# Altium footprint library MB172.PcbLib: 1 footprints
Each footprint in its own frame and in the unit in brackets; x right, y up, seen from the top. Pads: shape width x height; smd on the part's side, far side on the other; paste and mask are expansions set on the pad; w line width, h text height; cw(c..) or ccw(c..) is an arc to the next point about the centre after c.
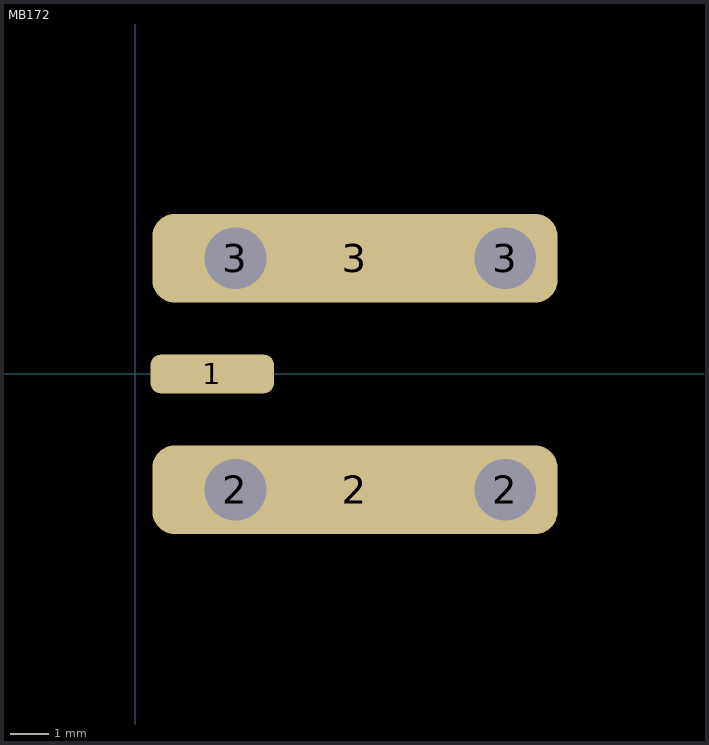
[diagram p0: the footprint, top view; thin cyan lines are the x and y axes]

## MB172 [mm]
pads (7):
  rrect50% 3.2x1 smd: 1(2,0)
  round 2 hole 1.6: 2(2.6,-3) 2(9.6,-3) 3(2.6,3) 3(9.6,3)
  rrect50% 10.5x2.3 smd: 2(5.7,-3) 3(5.7,3)
3D body "59s20x-40mxx-y_041109.stp": height 6.55, standoff -3.5, extent -11.282,-3.8 10.668,3.8